# EAGLE library part PICAXE-20M (library bt_pic)
PICAXE 20 pin BASIC microcontroller chip PICAXE is a neat entry-level microcontroller system that is relatively cheap to get started with. The chip is programmed with a simple serial connection and the BASIC development environment is free! PICAXE has some excellent educational applications and support, and is a great entryway into more complicated embedded systems. If you’re look for a place to start with microcontrollers, PICAXE is a great way to go! datasheet.pdf <http://www.rev-ed.co.uk/docs/picaxe_manual1.pdf>
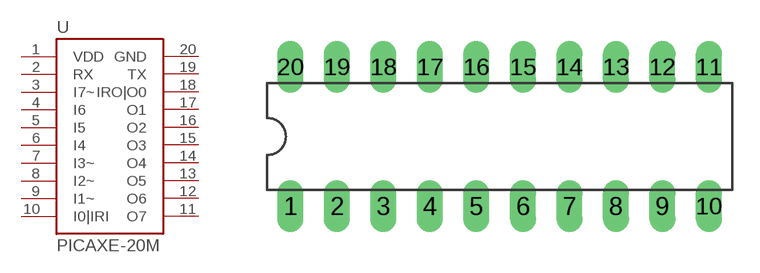
[diagram p16: symbol with the pads of DIL20; footprint DIL20]

Designator prefix -

## PICAXE-20M  [DIL20]
1  VDD  pwr
2  RX  in
3  I7~  in
4  I6  in
5  I5  in
6  I4  in
7  I3~  in
8  I2~  in
9  I1~  in
10  I0|IRI  in
11  O7  out
12  O6  out
13  O5  out
14  O4  out
15  O3  out
16  O2  out
17  O1  out
18  IRO|O0  out
19  TX  out
20  GND  pwr

## Footprint DIL20 (pad centres in mm)
drill 0.813 pad 1.422 long: 1 -11.43,-3.81; 2 -8.89,-3.81; 3 -6.35,-3.81; 4 -3.81,-3.81; 5 -1.27,-3.81; 6 1.27,-3.81; 7 3.81,-3.81; 8 6.35,-3.81; 9 8.89,-3.81; 10 11.43,-3.81; 11 11.43,3.81; 12 8.89,3.81; 13 6.35,3.81; 14 3.81,3.81; 15 1.27,3.81; 16 -1.27,3.81; 17 -3.81,3.81; 18 -6.35,3.81; 19 -8.89,3.81; 20 -11.43,3.81